# Altium footprint library ImegurasLib.PcbLib: 41 footprints (part 1 of 3)
Each footprint in its own frame and in the unit in brackets; x right, y up, seen from the top. Pads: shape width x height; smd on the part's side, far side on the other; paste and mask are expansions set on the pad; w line width, h text height; cw(c..) or ccw(c..) is an arc to the next point about the centre after c.
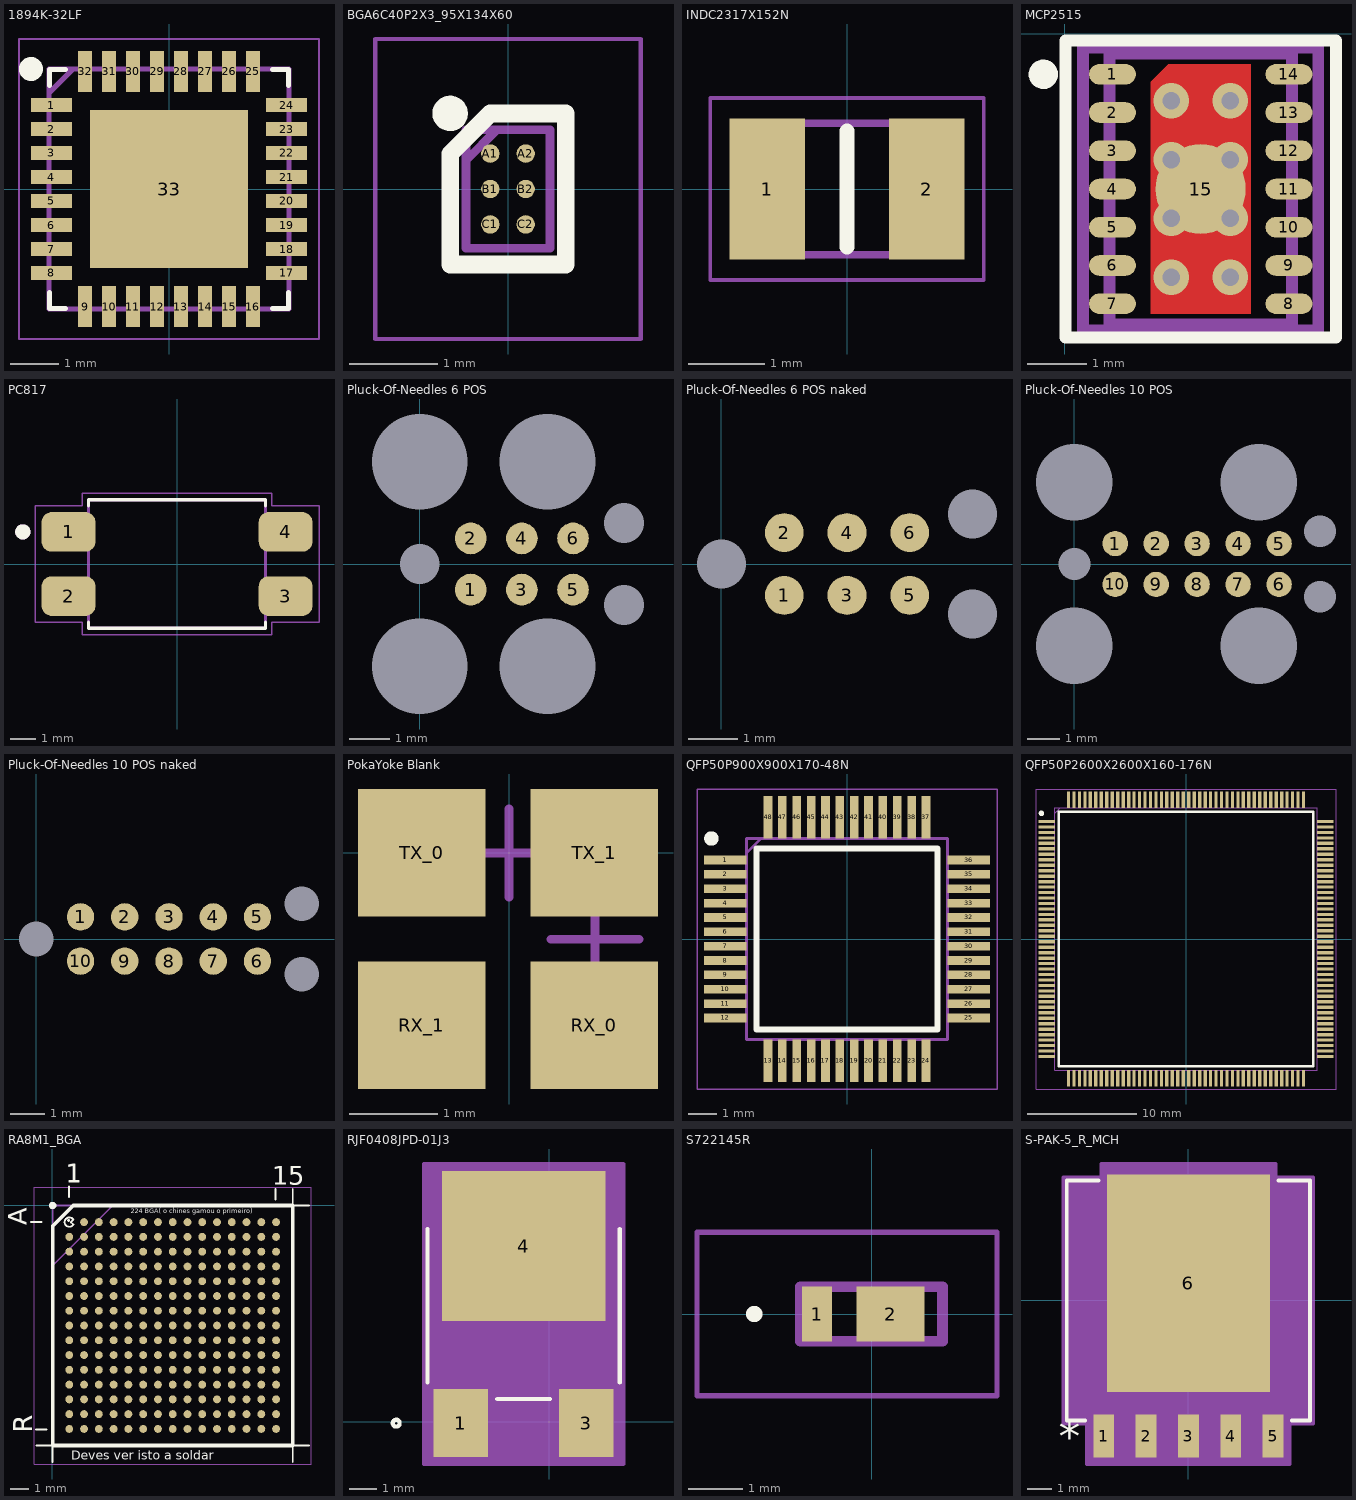
[diagram p0: the footprints below, top view; thin cyan lines are the x and y axes]

## 1894K-32LF [mm]
pads (33):
  rect 0.85x0.3 smd: 1(-2.45,1.75) 2(-2.45,1.25) 3(-2.45,0.75) 4(-2.45,0.25) 5(-2.45,-0.25) 6(-2.45,-0.75) 7(-2.45,-1.25) 8(-2.45,-1.75) 17(2.45,-1.75) 18(2.45,-1.25) 19(2.45,-0.75) 20(2.45,-0.25) 21(2.45,0.25) 22(2.45,0.75) 23(2.45,1.25) 24(2.45,1.75)
  rect 0.3x0.85 smd: 9(-1.75,-2.45) 10(-1.25,-2.45) 11(-0.75,-2.45) 12(-0.25,-2.45) 13(0.25,-2.45) 14(0.75,-2.45) 15(1.25,-2.45) 16(1.75,-2.45) 25(1.75,2.45) 26(1.25,2.45) 27(0.75,2.45) 28(0.25,2.45) 29(-0.25,2.45) 30(-0.75,2.45) 31(-1.25,2.45) 32(-1.75,2.45)
  rect 3.3x3.3 smd: 33(0,0)
Top Overlay:
  circle w0.25: c-2.875,2.5 r0.125
  lines w0.1: -2.489,-2.159 -2.489,-2.489 -2.159,-2.489 ; -2.489,2.159 -2.489,2.489 ; 2.159,-2.489 2.489,-2.489 2.489,-2.159 ; 2.159,2.489 2.489,2.489 2.489,2.159 ; -2.489,2.489 -2.159,2.489 -2.489,2.489
Mechanical 15:
  lines w0.1: -2.5,2 -2,2.5 ; -2.5,-2.5 -2.5,2.5 2.5,2.5 2.5,-2.5 -2.5,-2.5
Mechanical 20:
  lines w0.05: -3.125,-3.125 -3.125,3.125 3.125,3.125 3.125,-3.125 -3.125,-3.125
3D body "1894K-32LF.stp": height 1, standoff 0, extent -2.55,-2.55 2.55,2.55

## BGA6C40P2X3_95X134X60 [mm]
pads (6):
  round 0.208 smd: A1(-0.2,0.4) A2(0.2,0.4) B1(-0.2,0) B2(0.2,0) C1(-0.2,-0.4) C2(0.2,-0.4)
Top Overlay:
  circle w0.2: c-0.654,0.854 r0.1
  lines w0.2: -0.654,-0.854 0.654,-0.854 0.654,0.854 -0.2,0.854 -0.654,0.4 -0.654,-0.854
Mechanical 13:
  lines w0.1: -0.475,0.322 -0.127,0.67 ; -0.475,-0.67 0.475,-0.67 0.475,0.67 -0.475,0.67 -0.475,-0.67
Mechanical 15:
  lines w0.05: -1.5,-1.695 1.5,-1.695 1.5,1.695 -1.5,1.695 -1.5,-1.695
3D body "IP3319CX6,135.stp": height 0.6, standoff 0, extent -0.475,-0.67 0.475,0.67

## INDC2317X152N [mm]
pads (2):
  rect 1x1.85 smd: 1(-1.05,0) 2(1.05,0)
Top Overlay:
  lines w0.2: 0,-0.765 0,0.765
Mechanical 15:
  lines w0.1: -1.145,-0.865 -1.145,0.865 1.145,0.865 1.145,-0.865 -1.145,-0.865
Mechanical 20:
  lines w0.05: -1.8,-1.2 -1.8,1.2 1.8,1.2 1.8,-1.2 -1.8,-1.2
3D body "Coilcraft-0805AF.step": height 1.51, standoff -0.01, extent -1.145,-0.865 1.145,0.865

## MCP2515 [mm]
pads (15):
  rrect100% 0.8x0.35 smd paste+0 mask+0: 1(0.811,-0.692) 2(0.811,-1.342) 3(0.811,-1.992) 4(0.811,-2.642) 5(0.811,-3.292) 6(0.811,-3.942) 7(0.811,-4.592) 8(3.811,-4.592) 9(3.811,-3.942) 10(3.811,-3.292) 11(3.811,-2.642) 12(3.811,-1.992) 13(3.811,-1.342) 14(3.811,-0.692)
  round 1.53 smd paste+0 mask+0: 15(2.311,-2.642)
via 2.811,-4.142 diameter 0.6 hole 0.3
via 2.811,-3.142 diameter 0.6 hole 0.3
via 2.811,-2.142 diameter 0.6 hole 0.3
via 2.811,-1.142 diameter 0.6 hole 0.3
via 1.811,-4.142 diameter 0.6 hole 0.3
via 1.811,-3.142 diameter 0.6 hole 0.3
via 1.811,-2.142 diameter 0.6 hole 0.3
via 1.811,-1.142 diameter 0.6 hole 0.3
Top Layer:
  region: 3.161,-0.517 1.761,-0.517 1.461,-0.817 1.461,-4.767 3.161,-4.767
Top Overlay:
  circle w0.25: c-0.364,-0.692 r0.125
  lines w0.2: 0.011,-5.167 0.011,-0.117 4.611,-0.117 4.611,-5.167 0.011,-5.167
Top Assembly:
  lines w0.2: 0.311,-5.042 0.311,-0.242 ; 0.311,-5.042 4.311,-5.042 ; 0.311,-5.042 0.311,-0.242 ; 0.311,-5.042 4.311,-5.042 ; 0.311,-0.242 4.311,-0.242 ; 0.311,-0.242 4.311,-0.242 ; 4.311,-5.042 4.311,-0.242 ; 4.311,-5.042 4.311,-0.242
  text ".Designator" at 2.311,-2.453 h1
Top 3D Body:
  lines w0.2: 0.761,-4.942 0.761,-0.342 3.861,-0.342 3.861,-4.942 0.761,-4.942
Top Component Center:
  lines w0.1: 1.811,-2.642 2.811,-2.642 ; 2.311,-3.142 2.311,-2.142
3D body "IC_Microchip_ATA6570-GCQW1_eec.STEP": height 0.25, standoff 0, extent 0.311,-5.042 4.311,-0.242

## PC817 [mm]
pads (4):
  rrect50% 2.13x1.57 smd: 1(-4.29,1.27) 2(-4.29,-1.27) 3(4.29,-1.27) 4(4.29,1.27)
Top Overlay:
  circle w0.3: c-6.1,1.27 r0.15
  lines w0.127: -3.5,-2.304 -3.5,-2.54 3.5,-2.54 3.5,-2.304 ; -3.5,2.304 -3.5,2.54 3.5,2.54 3.5,2.304
Mechanical 13:
  circle w0.3: c-6.1,1.27 r0.15
  lines w0.127: -3.5,-2.54 3.5,-2.54 3.5,2.54 -3.5,2.54 -3.5,-2.54
Mechanical 15:
  lines w0.05: -5.61,-2.31 -3.75,-2.31 -3.75,-2.79 3.75,-2.79 3.75,-2.31 5.61,-2.31 5.61,2.31 3.75,2.31 3.75,2.79 -3.75,2.79 -3.75,2.31 -5.61,2.31 -5.61,-2.31
3D body "step_temp.STEP": height 4, standoff 0, extent -4.875,-2.29 4.875,2.29

## Pluck-Of-Needles 6 POS [mil] "A proprietary solderless JTAG disposition"
pads (13):
  round 30.98 smd: 1(50,-25) 2(50,25) 3(100,-25) 4(100,25) 5(150,-25) 6(150,25)
  round 0 hole 93.5 unplated: H0(0,-100) H0(0,100) H0(125,-100) H0(125,100)
  round 0 hole 39 unplated: H0(0,0) H0(200,-40) H0(200,40)

## Pluck-Of-Needles 6 POS naked [mil] "A proprietary solderless JTAG disposition"
pads (9):
  round 30.98 smd: 1(50,-25) 2(50,25) 3(100,-25) 4(100,25) 5(150,-25) 6(150,25)
  round 0 hole 39 unplated: H0(0,0) H0(200,-40) H0(200,40)

## Pluck-Of-Needles 10 POS [mil] "A proprietary solderless JTAG disposition"
pads (17):
  round 30.98 smd: 1(50,25) 2(100,25) 3(150,25) 4(200,25) 5(250,25) 6(250,-25) 7(200,-25) 8(150,-25) 9(100,-25) 10(50,-25)
  round 0 hole 93.5 unplated: H0(0,-100) H0(0,100) H0(225,-100) H0(225,100)
  round 0 hole 39 unplated: H0(0,0) H0(300,-40) H0(300,40)

## Pluck-Of-Needles 10 POS naked [mil] "A proprietary solderless JTAG disposition"
pads (13):
  round 30.98 smd: 1(50,25) 2(100,25) 3(150,25) 4(200,25) 5(250,25) 6(250,-25) 7(200,-25) 8(150,-25) 9(100,-25) 10(50,-25)
  round 0 hole 39 unplated: H0(0,0) H0(300,-40) H0(300,40)

## PokaYoke Blank [mm] "An solderbridge variation meant to permit crossover to straightrough variations easily"
pads (4):
  rect 1.45x1.45 smd: RX_0(0.965,-1.956) RX_1(-0.991,-1.956) TX_0(-0.991,0) TX_1(0.965,0)
Top Solder:
  region: -0.229,0.711 0.203,0.711 0.203,-0.711 -0.229,-0.711
  region: 0.263,-1.208 0.263,-0.777 1.686,-0.777 1.686,-1.208
  region: -1.696,-1.198 -1.696,-0.766 -0.273,-0.766 -0.273,-1.198
  region: 0.233,-2.661 -0.199,-2.661 -0.199,-1.239 0.233,-1.239
Mechanical 15:
  lines w0.1: -0.5,0 0.5,0 ; 0,-0.5 0,0.5 ; 0.474,-0.98 1.474,-0.98 ; 0.974,-1.48 0.974,-0.48

## QFP50P900X900X170-48N [mm]
pads (48):
  rect 1.475x0.3 smd: 1(-4.238,2.75) 2(-4.238,2.25) 3(-4.238,1.75) 4(-4.238,1.25) 5(-4.238,0.75) 6(-4.238,0.25) 7(-4.238,-0.25) 8(-4.238,-0.75) 9(-4.238,-1.25) 10(-4.238,-1.75) 11(-4.238,-2.25) 12(-4.238,-2.75) 25(4.238,-2.75) 26(4.238,-2.25) 27(4.238,-1.75) 28(4.238,-1.25) 29(4.238,-0.75) 30(4.238,-0.25) 31(4.238,0.25) 32(4.238,0.75) 33(4.238,1.25) 34(4.238,1.75) 35(4.238,2.25) 36(4.238,2.75)
  rect 0.3x1.475 smd: 13(-2.75,-4.238) 14(-2.25,-4.238) 15(-1.75,-4.238) 16(-1.25,-4.238) 17(-0.75,-4.238) 18(-0.25,-4.238) 19(0.25,-4.238) 20(0.75,-4.238) 21(1.25,-4.238) 22(1.75,-4.238) 23(2.25,-4.238) 24(2.75,-4.238) 37(2.75,4.238) 38(2.25,4.238) 39(1.75,4.238) 40(1.25,4.238) 41(0.75,4.238) 42(0.25,4.238) 43(-0.25,4.238) 44(-0.75,4.238) 45(-1.25,4.238) 46(-1.75,4.238) 47(-2.25,4.238) 48(-2.75,4.238)
Top Overlay:
  circle w0.25: c-4.725,3.5 r0.125
  lines w0.2: -3.15,-3.15 3.15,-3.15 3.15,3.15 -3.15,3.15 -3.15,-3.15
Mechanical 15:
  lines w0.1: -3.5,3 -3,3.5 ; -3.5,-3.5 3.5,-3.5 3.5,3.5 -3.5,3.5 -3.5,-3.5
Mechanical 20:
  lines w0.05: -5.225,-5.225 5.225,-5.225 5.225,5.225 -5.225,5.225 -5.225,-5.225
3D body "R7FA4M2AD3CFL#BA0.stp": height 1.7, standoff 0, extent -4.5,-4.5 4.5,4.5

## QFP50P2600X2600X160-176N [mm]
pads (176):
  rect 1.475x0.3 smd: 1(-12.738,10.75) 2(-12.738,10.25) 3(-12.738,9.75) 4(-12.738,9.25) 5(-12.738,8.75) 6(-12.738,8.25) 7(-12.738,7.75) 8(-12.738,7.25) 9(-12.738,6.75) 10(-12.738,6.25) 11(-12.738,5.75) 12(-12.738,5.25) 13(-12.738,4.75) 14(-12.738,4.25) 15(-12.738,3.75) 16(-12.738,3.25) 17(-12.738,2.75) 18(-12.738,2.25) 19(-12.738,1.75) 20(-12.738,1.25) 21(-12.738,0.75) 22(-12.738,0.25) 23(-12.738,-0.25) 24(-12.738,-0.75) 25(-12.738,-1.25) 26(-12.738,-1.75) 27(-12.738,-2.25) 28(-12.738,-2.75) 29(-12.738,-3.25) 30(-12.738,-3.75) 31(-12.738,-4.25) 32(-12.738,-4.75) 33(-12.738,-5.25) 34(-12.738,-5.75) 35(-12.738,-6.25) 36(-12.738,-6.75) 37(-12.738,-7.25) 38(-12.738,-7.75) 39(-12.738,-8.25) 40(-12.738,-8.75) 41(-12.738,-9.25) 42(-12.738,-9.75) 43(-12.738,-10.25) 44(-12.738,-10.75) 89(12.738,-10.75) 90(12.738,-10.25) 91(12.738,-9.75) 92(12.738,-9.25) 93(12.738,-8.75) 94(12.738,-8.25) 95(12.738,-7.75) 96(12.738,-7.25) 97(12.738,-6.75) 98(12.738,-6.25) 99(12.738,-5.75) 100(12.738,-5.25) 101(12.738,-4.75) 102(12.738,-4.25) 103(12.738,-3.75) 104(12.738,-3.25) 105(12.738,-2.75) 106(12.738,-2.25) 107(12.738,-1.75) 108(12.738,-1.25) 109(12.738,-0.75) 110(12.738,-0.25) 111(12.738,0.25) 112(12.738,0.75) 113(12.738,1.25) 114(12.738,1.75) 115(12.738,2.25) 116(12.738,2.75) 117(12.738,3.25) 118(12.738,3.75) 119(12.738,4.25) 120(12.738,4.75) 121(12.738,5.25) 122(12.738,5.75) 123(12.738,6.25) 124(12.738,6.75) 125(12.738,7.25) 126(12.738,7.75) 127(12.738,8.25) 128(12.738,8.75) 129(12.738,9.25) 130(12.738,9.75) 131(12.738,10.25) 132(12.738,10.75)
  rect 0.3x1.475 smd: 45(-10.75,-12.738) 46(-10.25,-12.738) 47(-9.75,-12.738) 48(-9.25,-12.738) 49(-8.75,-12.738) 50(-8.25,-12.738) 51(-7.75,-12.738) 52(-7.25,-12.738) 53(-6.75,-12.738) 54(-6.25,-12.738) 55(-5.75,-12.738) 56(-5.25,-12.738) 57(-4.75,-12.738) 58(-4.25,-12.738) 59(-3.75,-12.738) 60(-3.25,-12.738) 61(-2.75,-12.738) 62(-2.25,-12.738) 63(-1.75,-12.738) 64(-1.25,-12.738) 65(-0.75,-12.738) 66(-0.25,-12.738) 67(0.25,-12.738) 68(0.75,-12.738) 69(1.25,-12.738) 70(1.75,-12.738) 71(2.25,-12.738) 72(2.75,-12.738) 73(3.25,-12.738) 74(3.75,-12.738) 75(4.25,-12.738) 76(4.75,-12.738) 77(5.25,-12.738) 78(5.75,-12.738) 79(6.25,-12.738) 80(6.75,-12.738) 81(7.25,-12.738) 82(7.75,-12.738) 83(8.25,-12.738) 84(8.75,-12.738) 85(9.25,-12.738) 86(9.75,-12.738) 87(10.25,-12.738) 88(10.75,-12.738) 133(10.75,12.738) 134(10.25,12.738) 135(9.75,12.738) 136(9.25,12.738) 137(8.75,12.738) 138(8.25,12.738) 139(7.75,12.738) 140(7.25,12.738) 141(6.75,12.738) 142(6.25,12.738) 143(5.75,12.738) 144(5.25,12.738) 145(4.75,12.738) 146(4.25,12.738) 147(3.75,12.738) 148(3.25,12.738) 149(2.75,12.738) 150(2.25,12.738) 151(1.75,12.738) 152(1.25,12.738) 153(0.75,12.738) 154(0.25,12.738) 155(-0.25,12.738) 156(-0.75,12.738) 157(-1.25,12.738) 158(-1.75,12.738) 159(-2.25,12.738) 160(-2.75,12.738) 161(-3.25,12.738) 162(-3.75,12.738) 163(-4.25,12.738) 164(-4.75,12.738) 165(-5.25,12.738) 166(-5.75,12.738) 167(-6.25,12.738) 168(-6.75,12.738) 169(-7.25,12.738) 170(-7.75,12.738) 171(-8.25,12.738) 172(-8.75,12.738) 173(-9.25,12.738) 174(-9.75,12.738) 175(-10.25,12.738) 176(-10.75,12.738)
Top Overlay:
  circle w0.25: c-13.225,11.5 r0.125
  lines w0.2: -11.65,-11.65 11.65,-11.65 11.65,11.65 -11.65,11.65 -11.65,-11.65
Mechanical 15:
  lines w0.1: -12,11.5 -11.5,12 ; -12,-12 12,-12 12,12 -12,12 -12,-12
Mechanical 20:
  lines w0.05: -13.725,-13.725 13.725,-13.725 13.725,13.725 -13.725,13.725 -13.725,-13.725
3D body "R7FA8M1AFECFC#BA0.stp": height 1.6, standoff 0, extent -12.989,-13.001 13.011,12.999

## RA8M1_BGA [mil]
pads (224):
  round 16.77 smd: A2(68.02,-35.53) A3(99.52,-35.53) A4(131.02,-35.53) A5(162.51,-35.53) A6(194.01,-35.53) A7(225.5,-35.53) A8(257,-35.53) A9(288.5,-35.53) A10(319.99,-35.53) A11(351.49,-35.53) A12(382.98,-35.53) A13(414.48,-35.53) A14(445.98,-35.53) A15(477.47,-35.53) B1(36.53,-67.02) B2(68.02,-67.02) B3(99.52,-67.02) B4(131.02,-67.02) B5(162.51,-67.02) B6(194.01,-67.02) B7(225.5,-67.02) B8(257,-67.02) B9(288.5,-67.02) B10(319.99,-67.02) B11(351.49,-67.02) B12(382.98,-67.02) B13(414.48,-67.02) B14(445.98,-67.02) B15(477.47,-67.02) C1(36.53,-98.52) C2(68.02,-98.52) C3(99.52,-98.52) C4(131.02,-98.52) C5(162.51,-98.52) C6(194.01,-98.52) C7(225.5,-98.52) C8(257,-98.52) C9(288.5,-98.52) C10(319.99,-98.52) C11(351.49,-98.52) C12(382.98,-98.52) C13(414.48,-98.52) C14(445.98,-98.52) C15(477.47,-98.52) D1(36.53,-130.02) D2(68.02,-130.02) D3(99.52,-130.02) D4(131.02,-130.02) D5(162.51,-130.02) D6(194.01,-130.02) D7(225.5,-130.02) D8(257,-130.02) D9(288.5,-130.02) D10(319.99,-130.02) D11(351.49,-130.02) D12(382.98,-130.02) D13(414.48,-130.02) D14(445.98,-130.02) D15(477.47,-130.02) E1(36.53,-161.51) E2(68.02,-161.51) E3(99.52,-161.51) E4(131.02,-161.51) E5(162.51,-161.51) E6(194.01,-161.51) E7(225.5,-161.51) E8(257,-161.51) E9(288.5,-161.51) E10(319.99,-161.51) E11(351.49,-161.51) E12(382.98,-161.51) E13(414.48,-161.51) E14(445.98,-161.51) E15(477.47,-161.51) F1(36.53,-193.01) F2(68.02,-193.01) F3(99.52,-193.01) F4(131.02,-193.01) F5(162.51,-193.01) F6(194.01,-193.01) F7(225.5,-193.01) F8(257,-193.01) F9(288.5,-193.01) F10(319.99,-193.01) F11(351.49,-193.01) F12(382.98,-193.01) F13(414.48,-193.01) F14(445.98,-193.01) F15(477.47,-193.01) G1(36.53,-224.5) G2(68.02,-224.5) G3(99.52,-224.5) G4(131.02,-224.5) G5(162.51,-224.5) G6(194.01,-224.5) G7(225.5,-224.5) G8(257,-224.5) G9(288.5,-224.5) G10(319.99,-224.5) G11(351.49,-224.5) G12(382.98,-224.5) G13(414.48,-224.5) G14(445.98,-224.5) G15(477.47,-224.5) H1(36.53,-256) H2(68.02,-256) H3(99.52,-256) H4(131.02,-256) H5(162.51,-256) H6(194.01,-256) H7(225.5,-256) H8(257,-256) H9(288.5,-256) H10(319.99,-256) H11(351.49,-256) H12(382.98,-256) H13(414.48,-256) H14(445.98,-256) H15(477.47,-256) J1(36.53,-287.5) J2(68.02,-287.5) J3(99.52,-287.5) J4(131.02,-287.5) J5(162.51,-287.5) J6(194.01,-287.5) J7(225.5,-287.5) J8(257,-287.5) J9(288.5,-287.5) J10(319.99,-287.5) J11(351.49,-287.5) J12(382.98,-287.5) J13(414.48,-287.5) J14(445.98,-287.5) J15(477.47,-287.5) K1(36.53,-318.99) K2(68.02,-318.99) K3(99.52,-318.99) K4(131.02,-318.99) K5(162.51,-318.99) K6(194.01,-318.99) K7(225.5,-318.99) K8(257,-318.99) K9(288.5,-318.99) K10(319.99,-318.99) K11(351.49,-318.99) K12(382.98,-318.99) K13(414.48,-318.99) K14(445.98,-318.99) K15(477.47,-318.99) L1(36.53,-350.49) L2(68.02,-350.49) L3(99.52,-350.49) L4(131.02,-350.49) L5(162.51,-350.49) L6(194.01,-350.49) L7(225.5,-350.49) L8(257,-350.49) L9(288.5,-350.49) L10(319.99,-350.49) L11(351.49,-350.49) L12(382.98,-350.49) L13(414.48,-350.49) L14(445.98,-350.49) L15(477.47,-350.49) M1(36.53,-381.98) M2(68.02,-381.98) M3(99.52,-381.98) M4(131.02,-381.98) M5(162.51,-381.98) M6(194.01,-381.98) M7(225.5,-381.98) M8(257,-381.98) M9(288.5,-381.98) M10(319.99,-381.98) M11(351.49,-381.98) M12(382.98,-381.98) M13(414.48,-381.98) M14(445.98,-381.98) M15(477.47,-381.98) N1(36.53,-413.48) N2(68.02,-413.48) N3(99.52,-413.48) N4(131.02,-413.48) N5(162.51,-413.48) N6(194.01,-413.48) N7(225.5,-413.48) N8(257,-413.48) N9(288.5,-413.48) N10(319.99,-413.48) N11(351.49,-413.48) N12(382.98,-413.48) N13(414.48,-413.48) N14(445.98,-413.48) N15(477.47,-413.48) P1(36.53,-444.98) P2(68.02,-444.98) P3(99.52,-444.98) P4(131.02,-444.98) P5(162.51,-444.98) P6(194.01,-444.98) P7(225.5,-444.98) P8(257,-444.98) P9(288.5,-444.98) P10(319.99,-444.98) P11(351.49,-444.98) P12(382.98,-444.98) P13(414.48,-444.98) P14(445.98,-444.98) P15(477.47,-444.98) R1(36.53,-476.47) R2(68.02,-476.47) R3(99.52,-476.47) R4(131.02,-476.47) R5(162.51,-476.47) R6(194.01,-476.47) R7(225.5,-476.47) R8(257,-476.47) R9(288.5,-476.47) R10(319.99,-476.47) R11(351.49,-476.47) R12(382.98,-476.47) R13(414.48,-476.47) R14(445.98,-476.47) R15(477.47,-476.47)
Top Overlay:
  circle w4: c35,-31.85 r1
  circle w7.87: c1.09,-0.09 r3.94
  lines w4: -45.09,-34.91 -23.09,-34.91 ; -45,-35 -23,-35 ; -34.09,-477.91 -12.09,-477.91 ; -34,-511.91 1.09,-511.91 1.09,-547 ; -34,-478 -12,-478 ; 35.91,18.09 35.91,40.09 ; 36,18 36,40 ; 44.89,-30.63 43.67,-31.85 41.22,-34.3 39.99,-35.53 45.09,-40.62 ; 45.19,-40.53 cw(c36.53,-35.53) 45.19,-30.53 ; 475.91,13.09 475.91,35.09 ; 476,13 476,35 ; 512.91,-547 512.91,-511.91 548,-511.91 ; 512.91,35 512.91,-0.09 548,-0.09
  lines w7.87: 1.09,-511.91 1.09,-43.91 44.91,-0.09 512.91,-0.09 512.91,-511.91 1.09,-511.91
  text "Deves ver isto a soldar" at 41,-542 h19.68
  text "A" at -53.94,-42.06 h39.37
  text "15" at 468.94,43.94 h39.37
  text "224 BGA( o chines gamou o primeiro)" at 168,-16.67 h10
  text "1" at 28.94,48.94 h39.37
  text "R" at -42.94,-485.06 h39.37
  text "A" at -54.03,-41.97 h39.37
  text "15" at 468.84,44.03 h39.37
  text "1" at 28.84,49.03 h39.37
  text "R" at -43.03,-484.97 h39.37
Mechanical 13:
  lines w3.94: 1.09,-128.05 129.05,-0.09 ; 1.09,-511.91 1.09,-0.09 512.91,-0.09 512.91,-511.91 1.09,-511.91
Mechanical 15:
  lines w1.97: -38.28,-551.28 -38.28,39.28 552.28,39.28 552.28,-551.28 -38.28,-551.28
3D body "R7FA8M1AHECBD#UC0.stp": height 57.87, standoff 0, extent 1.09,-511.91 512.91,-0.09

## RJF0408JPD-01J3 [mil]
pads (3):
  rect 79x98 smd paste+0 mask+0: 1(-127.46,-1.7) 3(53.65,-1.7)
  rect 236x217 smd paste+0 mask+0: 4(-36.9,254.21)
Top Overlay:
  circle w6: c-220.9,-1.7 r5
  lines w6: -175.9,56.87 -175.9,279 ; -74.86,33 1.05,33 ; 102.1,56.87 102.1,279
Mechanical 13:
  circle w0: c-150.9,-1.7 r5
  lines w1: -170.9,38 97.1,38 97.1,274 -170.9,274 -170.9,38
Mechanical 15:
  region: 107.1,-60.7 -180.9,-60.7 -180.9,372.71 107.1,372.71
  lines w6: -180.9,-60.7 -180.9,372.71 107.1,372.71 107.1,-60.7 -180.9,-60.7

## S722145R [mm]
pads (2):
  rect 0.55x1 smd: 1(-1,0)
  rect 1.25x1 smd: 2(0.35,0)
Top Overlay:
  lines w0.2: -2.2,0 ccw(c-2.15,0) -2.1,0 ; -2.2,0 cw(c-2.15,0) -2.1,0 ; -2.2,0 ccw(c-2.15,0) -2.1,0
Mechanical 15:
  lines w0.2: -1.3,-0.5 -1.3,0.5 1.3,0.5 1.3,-0.5 -1.3,-0.5
Mechanical 20:
  lines w0.1: -3.2,-1.5 -3.2,1.5 2.3,1.5 2.3,-1.5 -3.2,-1.5
3D body "S7221-45R.stp": height 1.23, standoff 0, extent -1.328,-0.5 1.27,0.5

## S-PAK-5_R_MCH [mil]
pads (6):
  rect 32.97x68.56 smd paste+0 mask+0: 1(-134,-214.5) 2(-67,-214.5) 3(0,-214.5) 4(67,-214.5) 5(134,-214.5)
  rect 258x344 smd paste+0 mask+0: 6(0,27)
Top Overlay:
  lines w6: -163.58,-190 -192.5,-190 -192.5,190 -142.1,190 ; 142.1,190 192.5,190 192.5,-190 163.58,-190
  text "*" at -205,-239.5 h50
Mechanical 13:
  lines w1: -187.5,-185 -187.5,185 187.5,185 187.5,-185 -187.5,-185 ; -149.5,-235 -118.5,-235 -118.5,-185 -149.5,-185 -149.5,-235 ; -82.5,-235 -51.5,-235 -51.5,-185 -82.5,-185 -82.5,-235 ; -15.5,-235 15.5,-235 15.5,-185 -15.5,-185 -15.5,-235 ; -7.5,-200 7.5,-200 7.5,-185 -7.5,-185 -7.5,-200 ; 51.5,-235 82.5,-235 82.5,-185 51.5,-185 51.5,-235 ; 118.5,-235 149.5,-235 149.5,-185 118.5,-185 118.5,-235
  text "*" at -146.5,-200 h50
Mechanical 15:
  region: -197.5,-195 -197.5,195 -138,195 -138,216 138,216 138,195 197.5,195 197.5,-195 160.48,-195 160.48,-258.78 -160.48,-258.78 -160.48,-195
  lines w6: -197.5,-195 -160.48,-195 -160.48,-258.78 160.48,-258.78 160.48,-195 197.5,-195 197.5,195 138,195 138,216 -138,216 -138,195 -197.5,195 -197.5,-195
3D body "S-PAK-5_R_MCH.step": height 67.09, standoff -2.01, extent -187.48,-235 187.48,185